# Altium footprint library testpad.PCBLIB: 42 footprints (part 3 of 3)
Each footprint in its own frame and in the unit in brackets; x right, y up, seen from the top. Pads: shape width x height; smd on the part's side, far side on the other; paste and mask are expansions set on the pad; w line width, h text height; cw(c..) or ccw(c..) is an arc to the next point about the centre after c.
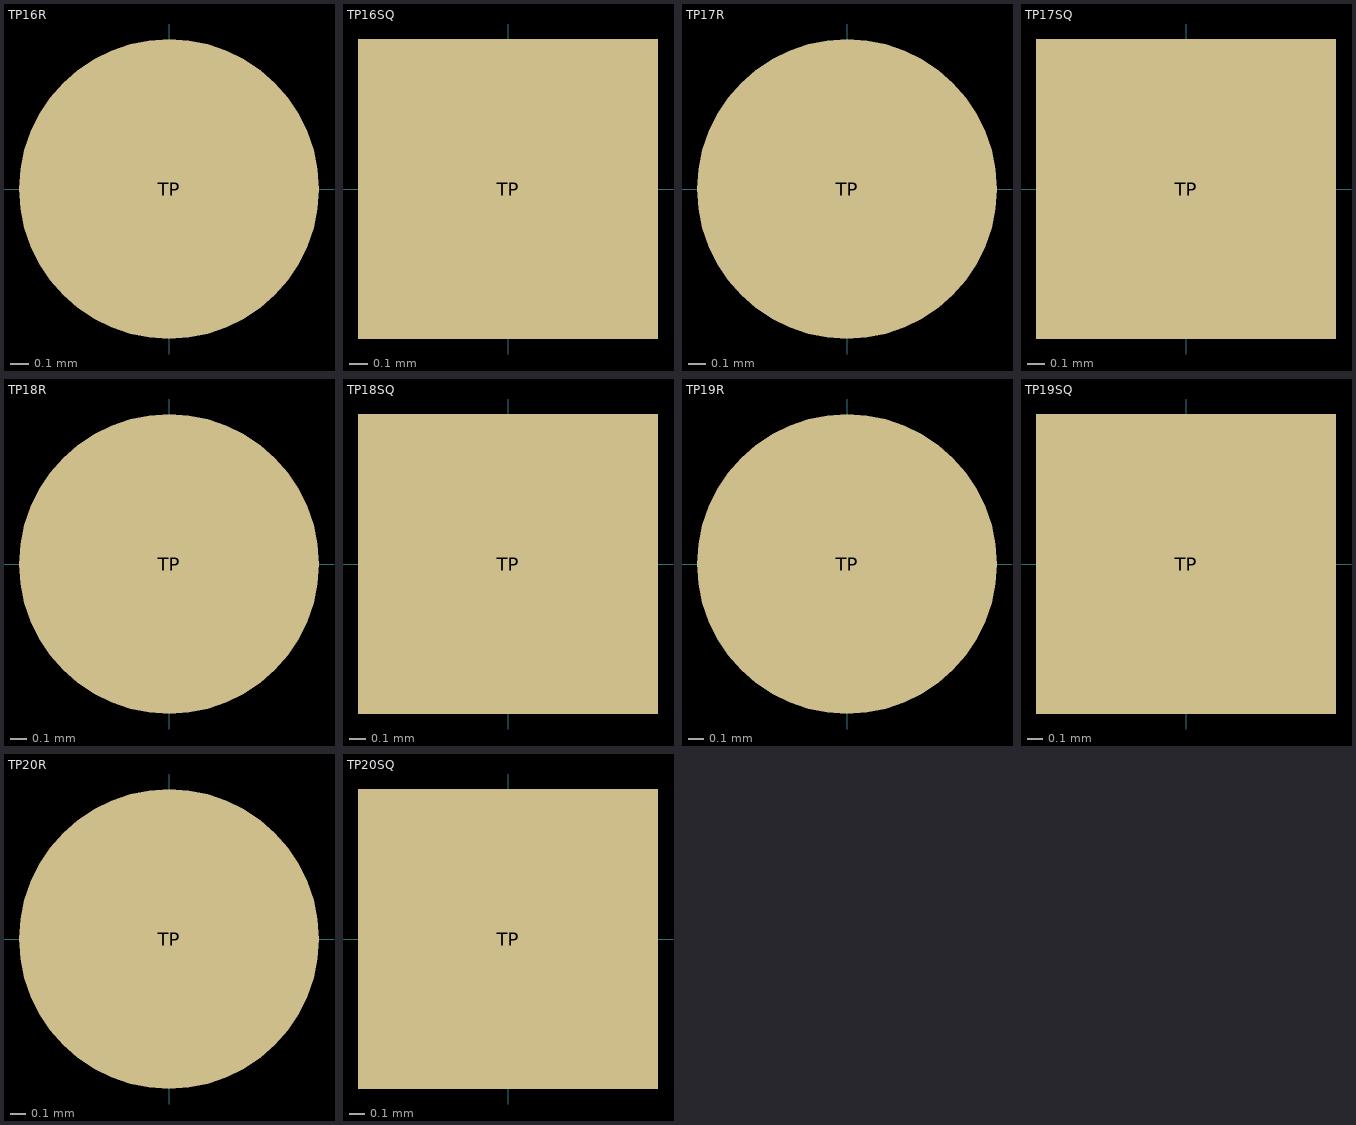
[diagram p2: the footprints below, top view; thin cyan lines are the x and y axes]

## TP16R [mil]
pads (1):
  rrect100% 62.99x62.99 smd: TP(0,0)
Mechanical 25:
  text ">TP_SIGNAL_NAME" at 0,-100 h61.02

## TP16SQ [mil]
pads (1):
  rect 62.98x62.98 smd: TP(0,0)
Mechanical 25:
  text ">TP_SIGNAL_NAME" at 0,-100 h61.02

## TP17R [mil]
pads (1):
  rrect100% 66.93x66.93 smd: TP(0,0)
Mechanical 25:
  text ">TP_SIGNAL_NAME" at 0,-100 h61.02

## TP17SQ [mil]
pads (1):
  rect 66.93x66.93 smd: TP(0,0)
Mechanical 25:
  text ">TP_SIGNAL_NAME" at 0,-100 h61.02

## TP18R [mil]
pads (1):
  rrect100% 70.87x70.87 smd: TP(0,0)
Mechanical 25:
  text ">TP_SIGNAL_NAME" at 0,-100 h61.02

## TP18SQ [mil]
pads (1):
  rect 70.87x70.87 smd: TP(0,0)
Mechanical 25:
  text ">TP_SIGNAL_NAME" at 0,-100 h61.02

## TP19R [mil]
pads (1):
  rrect100% 74.8x74.8 smd: TP(0,0)
Mechanical 25:
  text ">TP_SIGNAL_NAME" at 0,-100 h61.02

## TP19SQ [mil]
pads (1):
  rect 74.8x74.8 smd: TP(0,0)
Mechanical 25:
  text ">TP_SIGNAL_NAME" at 0,-100 h61.02

## TP20R [mm]
pads (1):
  rrect100% 2x2 smd: TP(0,0)
Mechanical 25:
  text ">TP_SIGNAL_NAME" at 0,-2.54 h1.55

## TP20SQ [mm]
pads (1):
  rect 2x2 smd: TP(0,0)
Mechanical 25:
  text ">TP_SIGNAL_NAME" at 0,-2.54 h1.55